# Altium schematic symbol library LM2596.SchLib: 1 symbol
Pins are listed as number, name and electrical type; pins without a type are passive.

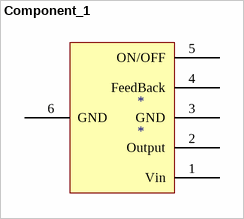
[diagram p0: symbol Component_1]

## Component_1
designator *
pins: 1 Vin, 2 Output, 3 GND, 4 FeedBack, 5 ON/OFF, 6 GND